# Altium schematic symbol library SCH - MCU - STM32 - ST MICROELECTRONICS STM32F107V(B-C)TX LQFP100.SchLib: 1 symbol
Pins are listed as number, name and electrical type; pins without a type are passive.

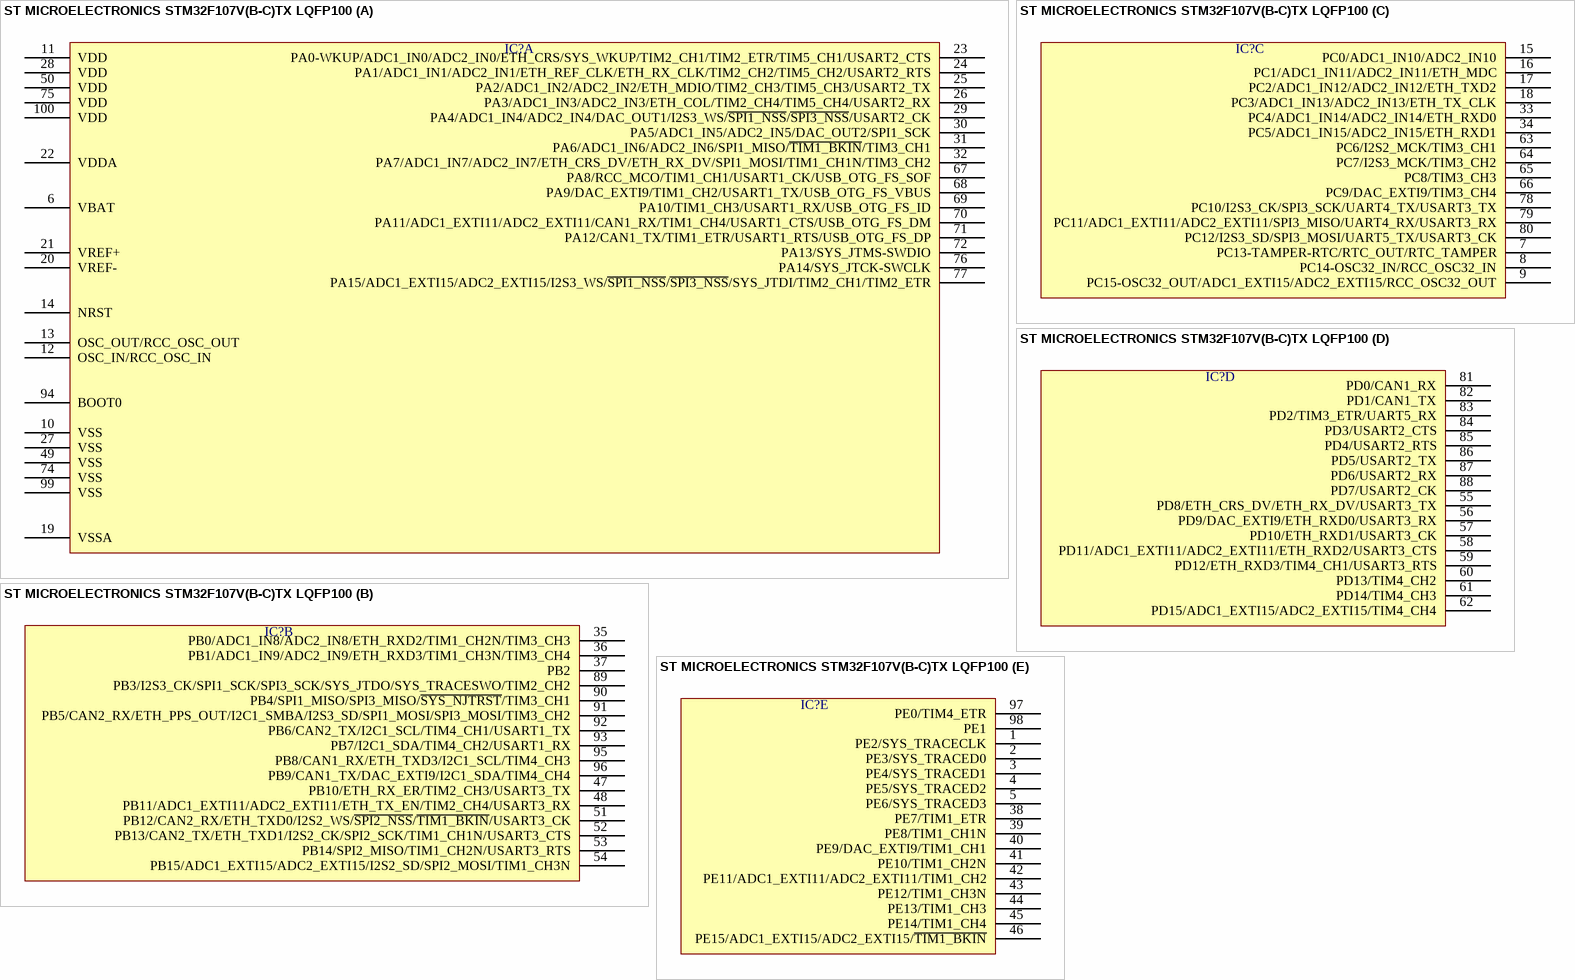
[diagram p0: symbol ST MICROELECTRONICS STM32F107V(B-C)TX LQFP100]

## ST MICROELECTRONICS STM32F107V(B-C)TX LQFP100
designator IC?  (value not drawn)
part A pins: 6 VBAT, 10 VSS, 11 VDD, 12 OSC_IN/RCC_OSC_IN, 13 OSC_OUT/RCC_OSC_OUT, 14 NRST, 19 VSSA, 20 VREF-, 21 VREF+, 22 VDDA, 23 PA0-WKUP/ADC1_IN0/ADC2_IN0/ETH_CRS/SYS_WKUP/TIM2_CH1/TIM2_ETR/TIM5_CH1/USART2_CTS, 24 PA1/ADC1_IN1/ADC2_IN1/ETH_REF_CLK/ETH_RX_CLK/TIM2_CH2/TIM5_CH2/USART2_RTS, 25 PA2/ADC1_IN2/ADC2_IN2/ETH_MDIO/TIM2_CH3/TIM5_CH3/USART2_TX, 26 PA3/ADC1_IN3/ADC2_IN3/ETH_COL/TIM2_CH4/TIM5_CH4/USART2_RX, 27 VSS, 28 VDD, 29 PA4/ADC1_IN4/ADC2_IN4/DAC_OUT1/I2S3_WS/~{SPI1_NSS}/~{SPI3_NSS}/USART2_CK, 30 PA5/ADC1_IN5/ADC2_IN5/DAC_OUT2/SPI1_SCK, 31 PA6/ADC1_IN6/ADC2_IN6/SPI1_MISO/~{TIM1_BKIN}/TIM3_CH1, 32 PA7/ADC1_IN7/ADC2_IN7/ETH_CRS_DV/ETH_RX_DV/SPI1_MOSI/TIM1_CH1N/TIM3_CH2, 49 VSS, 50 VDD, 67 PA8/RCC_MCO/TIM1_CH1/USART1_CK/USB_OTG_FS_SOF, 68 PA9/DAC_EXTI9/TIM1_CH2/USART1_TX/USB_OTG_FS_VBUS, 69 PA10/TIM1_CH3/USART1_RX/USB_OTG_FS_ID, 70 PA11/ADC1_EXTI11/ADC2_EXTI11/CAN1_RX/TIM1_CH4/USART1_CTS/USB_OTG_FS_DM, 71 PA12/CAN1_TX/TIM1_ETR/USART1_RTS/USB_OTG_FS_DP, 72 PA13/SYS_JTMS-SWDIO, 74 VSS, 75 VDD, 76 PA14/SYS_JTCK-SWCLK, 77 PA15/ADC1_EXTI15/ADC2_EXTI15/I2S3_WS/~{SPI1_NSS}/~{SPI3_NSS}/SYS_JTDI/TIM2_CH1/TIM2_ETR, 94 BOOT0, 99 VSS, 100 VDD
part B pins: 35 PB0/ADC1_IN8/ADC2_IN8/ETH_RXD2/TIM1_CH2N/TIM3_CH3, 36 PB1/ADC1_IN9/ADC2_IN9/ETH_RXD3/TIM1_CH3N/TIM3_CH4, 37 PB2, 47 PB10/ETH_RX_ER/TIM2_CH3/USART3_TX, 48 PB11/ADC1_EXTI11/ADC2_EXTI11/ETH_TX_EN/TIM2_CH4/USART3_RX, 51 PB12/CAN2_RX/ETH_TXD0/I2S2_WS/~{SPI2_NSS}/~{TIM1_BKIN}/USART3_CK, 52 PB13/CAN2_TX/ETH_TXD1/I2S2_CK/SPI2_SCK/TIM1_CH1N/USART3_CTS, 53 PB14/SPI2_MISO/TIM1_CH2N/USART3_RTS, 54 PB15/ADC1_EXTI15/ADC2_EXTI15/I2S2_SD/SPI2_MOSI/TIM1_CH3N, 89 PB3/I2S3_CK/SPI1_SCK/SPI3_SCK/SYS_JTDO/SYS_TRACESWO/TIM2_CH2, 90 PB4/SPI1_MISO/SPI3_MISO/~{SYS_NJTRST}/TIM3_CH1, 91 PB5/CAN2_RX/ETH_PPS_OUT/I2C1_SMBA/I2S3_SD/SPI1_MOSI/SPI3_MOSI/TIM3_CH2, 92 PB6/CAN2_TX/I2C1_SCL/TIM4_CH1/USART1_TX, 93 PB7/I2C1_SDA/TIM4_CH2/USART1_RX, 95 PB8/CAN1_RX/ETH_TXD3/I2C1_SCL/TIM4_CH3, 96 PB9/CAN1_TX/DAC_EXTI9/I2C1_SDA/TIM4_CH4
part C pins: 7 PC13-TAMPER-RTC/RTC_OUT/RTC_TAMPER, 8 PC14-OSC32_IN/RCC_OSC32_IN, 9 PC15-OSC32_OUT/ADC1_EXTI15/ADC2_EXTI15/RCC_OSC32_OUT, 15 PC0/ADC1_IN10/ADC2_IN10, 16 PC1/ADC1_IN11/ADC2_IN11/ETH_MDC, 17 PC2/ADC1_IN12/ADC2_IN12/ETH_TXD2, 18 PC3/ADC1_IN13/ADC2_IN13/ETH_TX_CLK, 33 PC4/ADC1_IN14/ADC2_IN14/ETH_RXD0, 34 PC5/ADC1_IN15/ADC2_IN15/ETH_RXD1, 63 PC6/I2S2_MCK/TIM3_CH1, 64 PC7/I2S3_MCK/TIM3_CH2, 65 PC8/TIM3_CH3, 66 PC9/DAC_EXTI9/TIM3_CH4, 78 PC10/I2S3_CK/SPI3_SCK/UART4_TX/USART3_TX, 79 PC11/ADC1_EXTI11/ADC2_EXTI11/SPI3_MISO/UART4_RX/USART3_RX, 80 PC12/I2S3_SD/SPI3_MOSI/UART5_TX/USART3_CK
part D pins: 55 PD8/ETH_CRS_DV/ETH_RX_DV/USART3_TX, 56 PD9/DAC_EXTI9/ETH_RXD0/USART3_RX, 57 PD10/ETH_RXD1/USART3_CK, 58 PD11/ADC1_EXTI11/ADC2_EXTI11/ETH_RXD2/USART3_CTS, 59 PD12/ETH_RXD3/TIM4_CH1/USART3_RTS, 60 PD13/TIM4_CH2, 61 PD14/TIM4_CH3, 62 PD15/ADC1_EXTI15/ADC2_EXTI15/TIM4_CH4, 81 PD0/CAN1_RX, 82 PD1/CAN1_TX, 83 PD2/TIM3_ETR/UART5_RX, 84 PD3/USART2_CTS, 85 PD4/USART2_RTS, 86 PD5/USART2_TX, 87 PD6/USART2_RX, 88 PD7/USART2_CK
part E pins: 1 PE2/SYS_TRACECLK, 2 PE3/SYS_TRACED0, 3 PE4/SYS_TRACED1, 4 PE5/SYS_TRACED2, 5 PE6/SYS_TRACED3, 38 PE7/TIM1_ETR, 39 PE8/TIM1_CH1N, 40 PE9/DAC_EXTI9/TIM1_CH1, 41 PE10/TIM1_CH2N, 42 PE11/ADC1_EXTI11/ADC2_EXTI11/TIM1_CH2, 43 PE12/TIM1_CH3N, 44 PE13/TIM1_CH3, 45 PE14/TIM1_CH4, 46 PE15/ADC1_EXTI15/ADC2_EXTI15/~{TIM1_BKIN}, 97 PE0/TIM4_ETR, 98 PE1